# Altium integrated library Cap-Cer-THP_V2.IntLib: 41 symbols
Pins are listed as number, name and electrical type; pins without a type are passive.

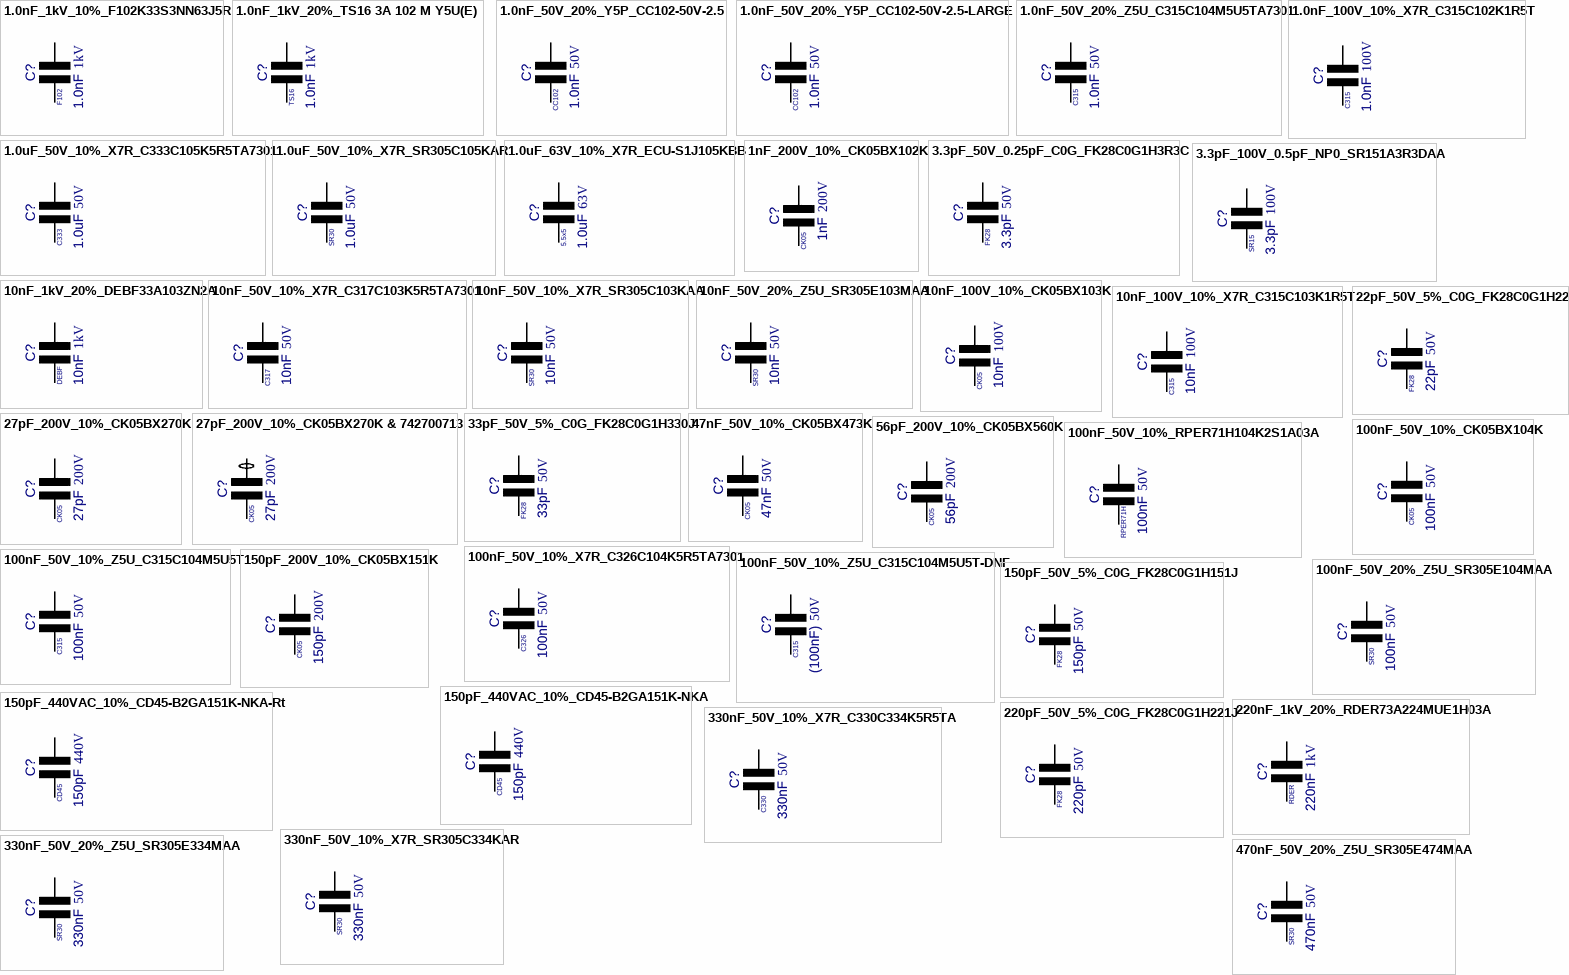
[diagram p0: symbols 1.0nF_1kV_10%_F102K33S3NN63J5R to 470nF_50V_20%_Z5U_SR305E474MAA]

## 1.0nF_1kV_10%_F102K33S3NN63J5R
designator C?, comment value 1.0nF  Voltage: 1kV  Text1: F102  (hidden comment: F102K33S3NN63J5R)
Cap Ceramic Y5R; Manufacturer: Vishay; Tol: 10%; Part Number: F102K33S3NN63J5R; Package: Disc 8.5x4.0-5; EDM-PN: *; Text2: *
footprint Disc 8.5x4.0-5 (Cap Disc  8.5x4.0 Pitch 5.0mm)
pins: 1, 2

## 1.0nF_1kV_20%_TS16 3A 102 M Y5U(E)
designator C?, comment value 1.0nF  Voltage: 1kV  Text1: TS16  (hidden comment: TS16 3A 102 M Y5U(E))
Cap Ceramic Y5U(E); Manufacturer: Suntan; Tol: 20%; Part Number: TS16 3A 102 M Y5U(E); Package: Disc 6.0x4.0-5; EDM-PN: *; Text2: *
footprint Disc 6.0x4.0-5 (Cap Disc  6.0x4.0 Pitch 5.0mm)
pins: 1, 2

## 1.0nF_50V_20%_Y5P_CC102-50V-2.5
designator C?, comment value 1.0nF  Voltage: 50V  Text1: CC102  (hidden comment: CC102-50V-2.5)
Cap Ceramic Y5P; Manufacturer: Mantech; Tol: 20%; Part Number: CC102-50V-2.5; Package: CAP-DISC-5.2x3.2 2.5mm; EDM-PN: *; Text2: *; RS: *
footprint CAP-DISC-5.2x3.2 2.5mm (DISC 5.2x3.2 2.5mm)
pins: 1, 2

## 1.0nF_50V_20%_Y5P_CC102-50V-2.5-LARGE
designator C?, comment value 1.0nF  Voltage: 50V  Text1: CC102  (hidden comment: CC102-50V-2.5)
Cap Ceramic Y5P; Manufacturer: Mantech; Tol: 20%; Part Number: CC102-50V-2.5; Package: CAP-DISC-5.2x3.2 2.5mm-LARGE; EDM-PN: *; Text2: *; RS: *
footprint CAP-DISC-5.2x3.2 2.5mm-LARGE (DISC 5.2x3.2 2.5mm)
pins: 1, 2

## 1.0nF_50V_20%_Z5U_C315C104M5U5TA7301
designator C?, comment value 1.0nF  Voltage: 50V  Text1: C315  (hidden comment: C315C104M5U5TA7301)
Cap Ceramic Z5U; Manufacturer: Kemet; Tol: 20%; Part Number: C315C104M5U5TA7301; Package: CAP-C315; EDM-PN: *; Text2: *; RS: *
footprint CAP-C315 (C315 3.3x3.81mm)
pins: 1, 2

## 1.0nF_100V_10%_X7R_C315C102K1R5T
designator C?, comment value 1.0nF  Voltage: 100V  Text1: C315  (hidden comment: C315C102K1R5T)
Cap Ceramic X7R; Manufacturer: Kemet; Tol: 10%; RS: 538-1168; Part Number: C315C102K1R5T; Package: CAP-C315; EDM-PN: *; Text2: *
footprint CAP-C315 (C315 3.3x3.81mm)
pins: 1, 2

## 1.0uF_50V_10%_X7R_C333C105K5R5TA7301
designator C?, comment value 1.0uF  Voltage: 50V  Text1: C333  (hidden comment: C333C105K5R5TA7301)
Cap Ceramic X7R; Manufacturer: Kemet; Tol: 10%; Part Number: C333C105K5R5TA7301; Package: CAP-C333; EDM-PN: *; Text2: *
footprint CAP-C333 (C333 4.07x7.11mm)
pins: 1, 2

## 1.0uF_50V_10%_X7R_SR305C105KAR
designator C?, comment value 1.0uF  Voltage: 50V  Text1: SR30  (hidden comment: SR305C105KAR)
Cap Ceramic X7R; Manufacturer: AVX; Tol: 10%; RS: 537-3971; Part Number: SR305C105KAR; Package: CAP-SR30; EDM-PN: *; Text2: *
footprint CAP-SR30 (SR30 3.81x7.62mm)
pins: 1, 2

## 1.0uF_63V_10%_X7R_ECU-S1J105KBB
designator C?, comment value 1.0uF  Voltage: 63V  Text1: 5.5x5  (hidden comment: ECU-S1J105KBB)
Cap Monilithic Ceramic X7R; Manufacturer: Panasonic; Tol: 10%; Part Number: ECU-S1J105KBB; Package: Disc 5.5x5.0-5; EDM-PN: *; Text2: *
footprint Disc 5.5x5-5 (Cap Disc  5.5x5.0 Pitch 5.0mm)
pins: 1, 2

## 1nF_200V_10%_CK05BX102K
designator C?, comment value 1nF  Voltage: 200V  Text1: CK05  (hidden comment: CK05BX102K)
Cap Ceramic BX; Manufacturer: AVX; Tol: 10%; Part Number: CK05BX102K; Package: CAP-CK05; EDM-PN: *; Text2: *; Reutech PN: *
footprint CAP-CK05 (CK05 2.29x4.83mm)
pins: 1, 2

## 3.3pF_50V_0.25pF_C0G_FK28C0G1H3R3C
designator C?, comment value 3.3pF  Voltage: 50V  Text1: FK28  (hidden comment: FK28C0G1H3R3C)
Cap Ceramic C0G; Manufacturer: TDK; Tol: 0.25pF; Part Number: FK28C0G1H3R3C; Package: CAP-FK28; EDM-PN: *; Text2: *
footprint CAP-FK28 (FK28 2.5x4.0mm)
pins: 1, 2

## 3.3pF_100V_0.5pF_NP0_SR151A3R3DAA
designator C?, comment value 3.3pF  Voltage: 100V  Text1: SR15  (hidden comment: SR151A3R3DAA)
Cap Ceramic NP0; Manufacturer: AVX; Tol: 0.5pF; Part Number: SR151A3R3DAA; Package: CAP-SR15; EDM-PN: *; Text2: *
footprint CAP-SR15 (SR15 2.54x3.81mm)
pins: 1, 2

## 10nF_1kV_20%_DEBF33A103ZN2A
designator C?, comment value 10nF  Voltage: 1kV  Text1: DEBF  (hidden comment: DEBF33A103ZN2A)
Cap Ceramic F(JIS); Manufacturer: Mutata; Tol: 20%; Part Number: DEBF33A103ZN2A; Package: Disc 11.0x4.0-5; EDM-PN: *; Text2: *
footprint Disc 11.0x4.0-5 (Cap Disc  11.0x4.0 Pitch 5.0mm)
pins: 1, 2

## 10nF_50V_10%_X7R_C317C103K5R5TA7301
designator C?, comment value 10nF  Voltage: 50V  Text1: C317  (hidden comment: C317C103K5R5TA7301)
Cap Ceramic X7R; Manufacturer: Kemet; Tol: 10%; Part Number: C317C103K5R5TA7301; Package: CAP-C317; EDM-PN: *; Text2: *
footprint CAP-C317 (C317 2.54x3.8mm)
pins: 1, 2

## 10nF_50V_10%_X7R_SR305C103KAA
designator C?, comment value 10nF  Voltage: 50V  Text1: SR30  (hidden comment: SR305C103KAA)
Cap Ceramic X7R; Manufacturer: AVX; Tol: 10%; Part Number: SR305C103KAA; Package: CAP-SR30; EDM-PN: *; Text2: *
footprint CAP-SR30 (SR30 3.81x7.62mm)
pins: 1, 2

## 10nF_50V_20%_Z5U_SR305E103MAA
designator C?, comment value 10nF  Voltage: 50V  Text1: SR30  (hidden comment: SR305E103MAA)
Cap Ceramic Z5U; Manufacturer: AVX; Tol: 20%; Part Number: SR305E103MAA; Package: CAP-SR30; EDM-PN: *; Text2: *
footprint CAP-SR30 (SR30 3.81x7.62mm)
pins: 1, 2

## 10nF_100V_10%_CK05BX103K
designator C?, comment value 10nF  Voltage: 100V  Text1: CK05  (hidden comment: CK05BX103K)
Cap Ceramic BX; Manufacturer: AVX; Tol: 10%; Part Number: CK05BX103K; Package: CAP-CK05; EDM-PN: *; Text2: *; Reutech PN: *
footprint CAP-CK05 (CK05 2.29x4.83mm)
pins: 1, 2

## 10nF_100V_10%_X7R_C315C103K1R5T
designator C?, comment value 10nF  Voltage: 100V  Text1: C315  (hidden comment: C315C103K1R5T)
Cap Ceramic X7R; Manufacturer: Kemet; Tol: 10%; RS: 538-1180; Part Number: C315C103K1R5T; Package: CAP-C315; EDM-PN: *; Text2: *
footprint CAP-C315 (C315 3.3x3.81mm)
pins: 1, 2

## 22pF_50V_5%_C0G_FK28C0G1H220J
designator C?, comment value 22pF  Voltage: 50V  Text1: FK28  (hidden comment: FK28C0G1H220J)
Cap Ceramic C0G; Manufacturer: TDK; Tol: 5%; Part Number: FK28C0G1H220J; Package: CAP-FK28; EDM-PN: *; Text2: *
footprint CAP-FK28 (FK28 2.5x4.0mm)
pins: 1, 2

## 27pF_200V_10%_CK05BX270K
designator C?, comment value 27pF  Voltage: 200V  Text1: CK05  (hidden comment: CK05BX270K)
Cap Ceramic BX; Manufacturer: AVX; Tol: 10%; Part Number: CK05BX270K; Package: CAP-CK05; EDM-PN: *; Text2: *; Reutech PN: *
footprint CAP-CK05 (CK05 2.29x4.83mm)
pins: 1, 2

## 27pF_200V_10%_CK05BX270K & 742700713
designator C?, comment value 27pF  Voltage: 200V  Text1: CK05  (hidden comment: CK05BX270K)
Cap Ceramic BX & Ferrite Bead; Manufacturer: AVX & Wurth; Part Number: CK05BX270K & 742700713; Tol: 10%; Package: CAP-CK05-742700713; EDM-PN: *; Text2: *; Reutech PN: *
footprint CAP-CK05-742700713 (CK05 2.29x4.83mm)
pins: 1, 2

## 33pF_50V_5%_C0G_FK28C0G1H330J
designator C?, comment value 33pF  Voltage: 50V  Text1: FK28  (hidden comment: FK28C0G1H330J)
Cap Ceramic C0G; Manufacturer: TDK; Tol: 5%; Part Number: FK28C0G1H330J; Package: CAP-FK28; EDM-PN: *; Text2: *
footprint CAP-FK28 (FK28 2.5x4.0mm)
pins: 1, 2

## 47nF_50V_10%_CK05BX473K
designator C?, comment value 47nF  Voltage: 50V  Text1: CK05  (hidden comment: CK05BX473K)
Cap Ceramic BX; Manufacturer: AVX; Tol: 10%; Reutech PN: 5910-GB-0053; Part Number: CK05BX473K; Package: CAP-CK05; EDM-PN: *; Text2: *
footprint CAP-CK05 (CK05 2.29x4.83mm)
pins: 1, 2

## 56pF_200V_10%_CK05BX560K
designator C?, comment value 56pF  Voltage: 200V  Text1: CK05  (hidden comment: CK05BX560K)
Cap Ceramic BX; Manufacturer: AVX; Tol: 10%; Part Number: CK05BX560K; Package: CAP-CK05; EDM-PN: *; Text2: *; Reutech PN: *
footprint CAP-CK05 (CK05 2.29x4.83mm)
pins: 1, 2

## 100nF_50V_10%_CK05BX104K
designator C?, comment value 100nF  Voltage: 50V  Text1: CK05  (hidden comment: CK05BX104K)
Cap Ceramic BX; Manufacturer: AVX; Tol: 10%; Reutech PN: 5910-GB-0051; Part Number: CK05BX104K; Package: CAP-CK05; EDM-PN: *; Text2: *
footprint CAP-CK05 (CK05 2.29x4.83mm)
pins: 1, 2

## 100nF_50V_10%_RPER71H104K2S1A03A
designator C?, comment value 100nF  Voltage: 50V  Text1: RPER71H  (hidden comment: RPER71H104K2S1A03A)
Cap Ceramic X7R; Manufacturer: Murata; Tol: 10%; RS: 653-0181; Part Number: RPER71H104K2S1A03A; Package: CAP-RPE-P1-5x2.5-p2.5; EDM-PN: *; Text2: *
footprint CAP-RPE-P1-5x2.5-p2.5
pins: 1, 2

## 100nF_50V_10%_X7R_C326C104K5R5TA7301
designator C?, comment value 100nF  Voltage: 50V  Text1: C326  (hidden comment: C326C104K5R5TA7301)
Cap Ceramic X7R; Manufacturer: Kemet; Tol: 10%; Part Number: C326C104K5R5TA7301; Package: CAP-C326; EDM-PN: *; Text2: *; RS: *
footprint CAP-C326 (C326 3.18x5.08mm)
pins: 1, 2

## 100nF_50V_10%_Z5U_C315C104M5U5T
designator C?, comment value 100nF  Voltage: 50V  Text1: C315  (hidden comment: C315C104M5U5T)
Cap Ceramic Z5U; Manufacturer: Kemet; Tol: 10%; RS: 538-1203; Part Number: C315C104M5U5T; Package: CAP-C315; EDM-PN: *; Text2: *
footprint CAP-C315 (C315 3.3x3.81mm)
pins: 1, 2

## 100nF_50V_10%_Z5U_C315C104M5U5T-DNF
designator C?, comment value (100nF)  Voltage: 50V  Text1: C315  (hidden comment: C315C104M5U5T)
Cap Ceramic Z5U - Do not Fit; Manufacturer: Kemet; Part Number: DNF - C315C104M5U5T; Tol: 10%; RS: 538-1203; Package: CAP-C315; EDM-PN: *; Text2: *
footprint CAP-C315 (C315 3.3x3.81mm)
pins: 1, 2

## 100nF_50V_20%_Z5U_SR305E104MAA
designator C?, comment value 100nF  Voltage: 50V  Text1: SR30  (hidden comment: SR305E104MAA)
Cap Ceramic Z5U; Manufacturer: AVX; Tol: 20%; Part Number: SR305E104MAA; Package: CAP-SR30; EDM-PN: *; Text2: *
footprint CAP-SR30 (SR30 3.81x7.62mm)
pins: 1, 2

## 150pF_50V_5%_C0G_FK28C0G1H151J
designator C?, comment value 150pF  Voltage: 50V  Text1: FK28  (hidden comment: FK28C0G1H151J)
Cap Ceramic C0G; Manufacturer: TDK; Tol: 5%; Part Number: FK28C0G1H151J; Package: CAP-FK28; EDM-PN: *; Text2: *
footprint CAP-FK28 (FK28 2.5x4.0mm)
pins: 1, 2

## 150pF_200V_10%_CK05BX151K
designator C?, comment value 150pF  Voltage: 200V  Text1: CK05  (hidden comment: CK05BX151K)
Cap Ceramic BX; Manufacturer: AVX; Tol: 10%; Part Number: CK05BX151K; Package: CAP-CK05; EDM-PN: *; Text2: *; Reutech PN: *
footprint CAP-CK05 (CK05 2.29x4.83mm)
pins: 1, 2

## 150pF_440VAC_10%_CD45-B2GA151K-NKA
designator C?, comment value 150pF  Voltage: 440V  Text1: CD45  (hidden comment: CD45-B2GA151K-NKA)
Cap Ceramic CD45; Manufacturer: TDK; Tol: 10%; Part Number: CD45-B2GA151K-NKA; Package: CAP-CD45-6.5X6.0-10P; EDM-PN: *; Text2: *; Reutech PN: *
footprint CAP-CD45-6.5X6.0-10P (CD45-6.5X6.0 Pitch 10.0mm)
pins: 1, 2

## 150pF_440VAC_10%_CD45-B2GA151K-NKA-Rt
designator C?, comment value 150pF  Voltage: 440V  Text1: CD45  (hidden comment: CD45-B2GA151K-NKA)
Cap Ceramic CD45; Manufacturer: TDK; Tol: 10%; Part Number: CD45-B2GA151K-NKA; Package: CAP-CD45-6.5X6.0-10P-RT; EDM-PN: *; Text2: *; Reutech PN: *
footprint CAP-CD45-6.5X6.0-10P-RT (CD45-6.5X6.0 Pitch 10.0mm)
pins: 1, 2

## 220nF_1kV_20%_RDER73A224MUE1H03A
designator C?, comment value 220nF  Voltage: 1kV  Text1: RDER  (hidden comment: RDER73A224MUE1H03A)
Cap Ceramic X7R; Manufacturer: Mutata; Tol: 20%; Part Number: RDER73A224MUE1H03A; Package: CAP-RDER73A-4.4x7 5mm; EDM-PN: *; Text2: *
footprint CAP-RDER73A-4.4x7 5mm (RDER73A 4.4x7 Pitch 5mm)
pins: 1, 2

## 220pF_50V_5%_C0G_FK28C0G1H221J
designator C?, comment value 220pF  Voltage: 50V  Text1: FK28  (hidden comment: FK28C0G1H221J)
Cap Ceramic C0G; Manufacturer: TDK; Tol: 5%; Part Number: FK28C0G1H221J; Package: CAP-FK28; EDM-PN: *; Text2: *
footprint CAP-FK28 (FK28 2.5x4.0mm)
pins: 1, 2

## 330nF_50V_10%_X7R_C330C334K5R5TA
designator C?, comment value 330nF  Voltage: 50V  Text1: C330  (hidden comment: C330C334K5R5TA)
Cap Ceramic X7R; Manufacturer: Kemet; Tol: 10%; Part Number: C330C334K5R5TA; Package: CAP-C330; EDM-PN: *; Text2: *
footprint CAP-C330 (C330 4.07x7.11mm)
pins: 1, 2

## 330nF_50V_10%_X7R_SR305C334KAR
designator C?, comment value 330nF  Voltage: 50V  Text1: SR30  (hidden comment: SR305C334KAR)
Cap Ceramic X7R; Manufacturer: AVX; Tol: 10%; RS: 669-5165; Part Number: SR305C334KAR; Package: CAP-SR30; EDM-PN: *; Text2: *
footprint CAP-SR30 (SR30 3.81x7.62mm)
pins: 1, 2

## 330nF_50V_20%_Z5U_SR305E334MAA
designator C?, comment value 330nF  Voltage: 50V  Text1: SR30  (hidden comment: SR305E334MAA)
Cap Ceramic Z5U; Manufacturer: AVX; Tol: 20%; Part Number: SR305E334MAA; Package: CAP-SR30; EDM-PN: *; Text2: *
footprint CAP-SR30 (SR30 3.81x7.62mm)
pins: 1, 2

## 470nF_50V_20%_Z5U_SR305E474MAA
designator C?, comment value 470nF  Voltage: 50V  Text1: SR30  (hidden comment: SR305E474MAA)
Cap Ceramic Z5U; Manufacturer: AVX; Tol: 20%; Part Number: SR305E474MAA; Package: CAP-SR30; EDM-PN: *; Text2: *
footprint CAP-SR30 (SR30 3.81x7.62mm)
pins: 1, 2

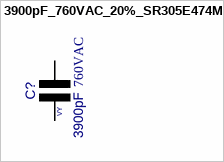
[diagram p1: symbol 3900pF_760VAC_20%_SR305E474MAA]

## 3900pF_760VAC_20%_SR305E474MAA
designator C?, comment value 3900pF  Voltage: 760VAC  Text1: VY  (hidden comment: SR305E474MAA)
Cap Ceramic Y5U 760VAC; Manufacturer: Vishay; Tol: 20%; Part Number: SR305E474MAA; Package: Disc-15.5x5.0-19.5-10P; EDM-PN: *; Text2: *
footprint Disc-15.5x5.0-19.5-10P (Cap Disc  15.5x5.0-19.5mm 10mm Pitch)
pins: 1, 2